# Altium footprint library GeneralCases.PcbLib: 45 footprints (part 2 of 3)
Each footprint in its own frame and in the unit in brackets; x right, y up, seen from the top. Pads: shape width x height; smd on the part's side, far side on the other; paste and mask are expansions set on the pad; w line width, h text height; cw(c..) or ccw(c..) is an arc to the next point about the centre after c.
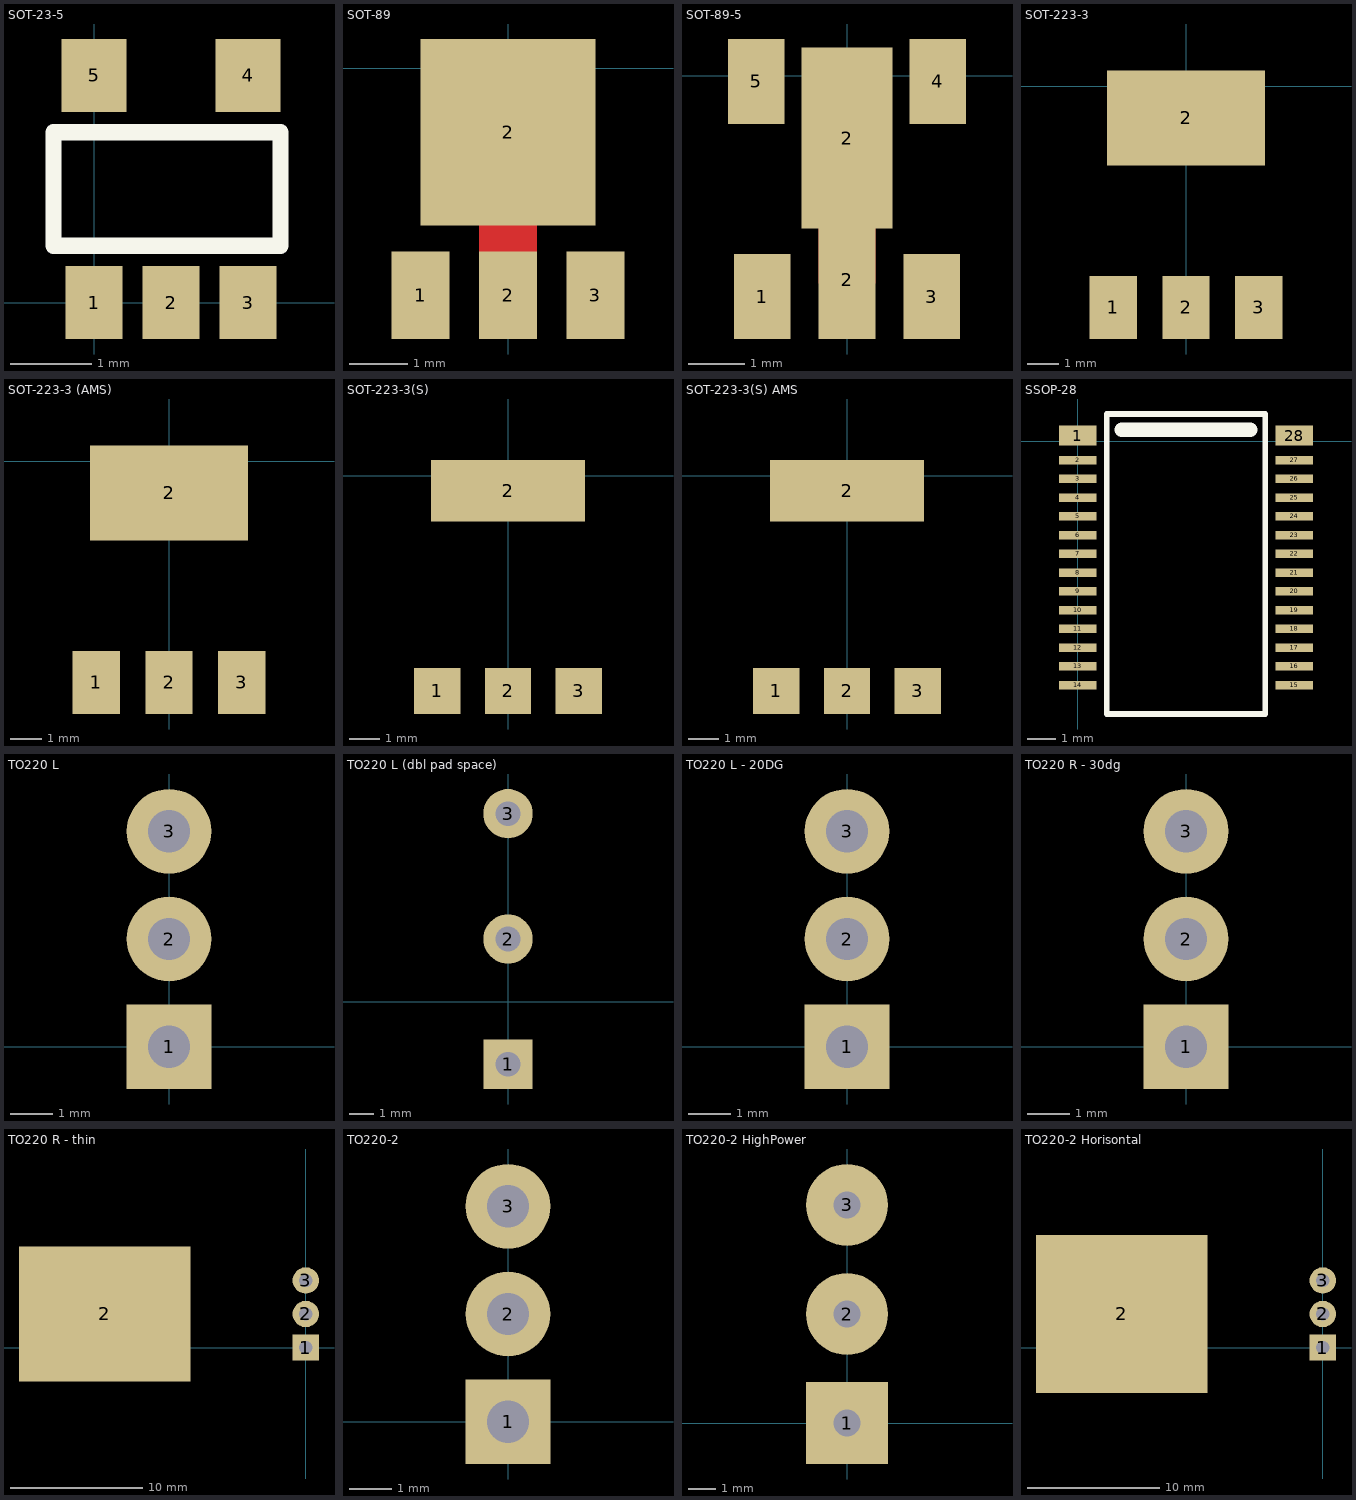
[diagram p1: the footprints below, top view; thin cyan lines are the x and y axes]

## SOT-23-5 [mm]
height 2.38
pads (5):
  rect 0.7x0.9 smd: 1(0,0) 2(0.95,0) 3(1.9,0)
  rect 0.8x0.9 smd: 4(1.9,2.8) 5(0,2.8)
Top Overlay:
  lines w0.2: -0.5,0.7 2.3,0.7 2.3,2.1 -0.5,2.1 -0.5,0.7
3D body "SOT-23-5(v2).STEP": height 1.42, standoff -0.04, extent -0.6,-0.1 2.4,2.9

## SOT-89 [mm]
pads (4):
  rect 1x1.5 smd: 1(-1.5,-3.9) 2(0,-3.9) 3(1.5,-3.9)
  rect 3x3.2 smd: 2(0,-1.1)
Top Layer:
  lines w1: 0,-3.9 0,-2
3D body "SOT-89.step": height 1.51, standoff 0, extent -2.25,-4.3 2.25,0

## SOT-89-5 [mm]
pads (6):
  rect 1x1.5 smd: 1(-1.5,-3.9) 3(1.5,-3.9) 4(1.6,-0.1) 5(-1.6,-0.1)
  rect 1x2.1 smd: 2(0,-3.6)
  rect 1.6x3.2 smd: 2(0,-1.1)
Top Layer:
  lines w1: 0,-3.6 0,-2
3D body "SOT-89-5.STEP": height 1.5, standoff 0, extent -2.25,-3.8 2.25,0

## SOT-223-3 [mm]
pads (4):
  rect 1.5x2 smd: 1(-2.3,-7) 2(0,-7) 3(2.3,-7)
  rect 5x3 smd: 2(0,-1)
3D body "SOT-223-3(2).STEP": height 1.85, standoff -0.05, extent -3.352,-7.099 3.348,0.105

## SOT-223-3 (AMS) [mm]
pads (4):
  rect 1.5x2 smd: 1(-2.3,-7) 2(0,-7) 3(2.3,-7)
  rect 5x3 smd: 2(0,-1)
3D body "SOT-223 (AMS1117).step": height 1.85, standoff -0.01, extent -3.25,-7.375 3.25,-0.375

## SOT-223-3(S) [mm]
pads (4):
  rect 1.5x1.5 smd: 1(-2.3,-7) 2(0,-7) 3(2.3,-7)
  rect 5x2 smd: 2(0,-0.5)
3D body "SOT-223-3(2).STEP": height 1.85, standoff -0.05, extent -3.352,-7.099 3.348,0.105

## SOT-223-3(S) AMS [mm]
pads (4):
  rect 1.5x1.5 smd: 1(-2.3,-7) 2(0,-7) 3(2.3,-7)
  rect 5x2 smd: 2(0,-0.5)
3D body "SOT-223 (AMS1117).step": height 1.85, standoff -0.01, extent -3.25,-7.2 3.25,-0.201

## SSOP-28 [mm]
pads (28):
  rect 1.3x0.7 smd: 1(0,0.2) 28(7.5,0.2)
  rect 1.3x0.3 smd: 2(0,-0.65) 3(0,-1.3) 4(0,-1.95) 5(0,-2.6) 6(0,-3.25) 7(0,-3.9) 8(0,-4.55) 9(0,-5.2) 10(0,-5.85) 11(0,-6.5) 12(0,-7.15) 13(0,-7.8) 14(0,-8.45) 15(7.5,-8.45) 16(7.5,-7.8) 17(7.5,-7.15) 18(7.5,-6.5) 19(7.5,-5.85) 20(7.5,-5.2) 21(7.5,-4.55) 22(7.5,-3.9) 23(7.5,-3.25) 24(7.5,-2.6) 25(7.5,-1.95) 26(7.5,-1.3) 27(7.5,-0.65)
Top Overlay:
  lines w0.2: 1,-9.45 1,0.95 6.5,0.95 6.5,-9.45 1,-9.45
  lines w0.5: 1.525,0.4 5.975,0.4
3D body "SSOP-28.step": height 1.92, standoff -0.03, extent -0.287,-9.485 7.938,1.015

## TO220 L [mm]
height 5
pads (3):
  rect 2x2 hole 1: 1(0,0)
  round 2 hole 1: 2(0,2.54) 3(0,5.08)
3D body "TO220 L.step": height 4.5, standoff -3.7, extent -0.202,-2.45 19.502,7.55

## TO220 L (dbl pad space) [mm]
height 5
pads (3):
  rect 2x2 hole 1: 1(0,-2.54)
  round 2 hole 1: 2(0,2.54) 3(0,7.62)
3D body "TO220 L.step": height 4.5, standoff -3.7, extent -0.202,-2.45 19.502,7.55

## TO220 L - 20DG [mm]
height 5
pads (3):
  rect 2x2 hole 1: 1(0,0)
  round 2 hole 1: 2(0,2.54) 3(0,5.08)
3D body "TO220 L.step": height 9.5, standoff -4.94, extent -1.385,-2.45 19.935,7.55

## TO220 R - 30dg [mm]
height 5
pads (3):
  rect 2x2 hole 1: 1(0,0)
  round 2 hole 1: 2(0,2.54) 3(0,5.08)
3D body "TO220-2 L.step": height 11.4, standoff -4.95, extent -19.214,-2.45 1.6,7.55

## TO220 R - thin [mm]
height 5
pads (4):
  rect 2x2 hole 1: 1(0,0)
  rect 13x10.2 smd: 2(-15.24,2.54)
  round 2 hole 1: 2(0,2.54) 3(0,5.08)
3D body "TO220-2 L.step": height 4.6, standoff -2.9, extent -19.704,-2.46 0,7.54

## TO220-2 [mm]
height 22
pads (3):
  rect 2x2 hole 1: 1(0,0)
  round 2 hole 1: 2(0,2.54) 3(0,5.08)
3D body "TO220-2.step": height 19, standoff -9.4, extent -2.7,-2.65 1.8,7.75

## TO220-2 HighPower [mm]
height 22
pads (3):
  rect 3x3 hole 1: 1(0,0)
  round 3 hole 1: 2(0,4) 3(0,8)
3D body "TO220-2.step": height 19, standoff -9.4, extent -2.7,-1.2 1.8,9.2

## TO220-2 Horisontal [mm]
height 5
pads (4):
  rect 2x2 hole 1: 1(0,0)
  rect 13x12 smd: 2(-15.24,2.54)
  round 2 hole 1: 2(0,2.54) 3(0,5.08)
3D body "TO220-2 L.step": height 4.6, standoff -2.9, extent -19.704,-2.46 0,7.54